# EAGLE library part ADP2360 (library HyTechDevices)
Analog Devices High Efficiency Buck Regulator Input Voltage Range: 4.5V - 60V Output Voltage: 5V (fixed) Output Current: 50 mA (max) Datasheet <http://www.mouser.com/ds/2/609/ADP2360-961379.pdf>
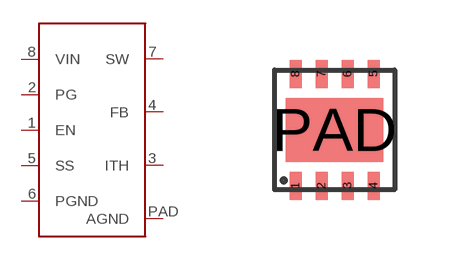
[diagram p70: symbol with the pads of LFCSP-8; footprint LFCSP-8]

Designator prefix -

## ADP2360  [LFCSP-8]
1  EN
2  PG
3  ITH
4  FB
5  SS
6  PGND
7  SW
8  VIN
PAD  AGND

## Footprint LFCSP-8 (pad centres in mm)
smd 0.3 x 0.7: 1 -0.975,-1.4; 2 -0.325,-1.4; 3 0.325,-1.4; 4 0.975,-1.4; 5 0.975,1.4; 6 0.325,1.4; 7 -0.325,1.4; 8 -0.975,1.4
smd 2.44 x 1.6: PAD 0,0